# EAGLE library part NC7WZ14 (library 7tiny-logic)
UHS Dual Inverter with Schmitt Trigger
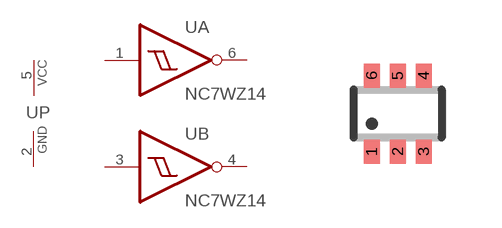
[diagram p6: symbol with the pads of SC70-6; footprint SC70-6]

Designator prefix U; gates A=GATE_INV_S B=GATE_INV_S P=PWRGNDV

## NC7WZ14  [SC70-6]
1  A:IN  in
2  P:GND  pwr
3  B:IN  in
4  B:OUT  out
5  P:VCC  pwr
6  A:OUT  out

## Footprint SC70-6 (pad centres in mm)
SC-70 Package - Fairchild
smd 0.4 x 0.6: 1 -0.65,-0.95; 2 0,-0.95; 3 0.65,-0.95; 4 0.65,0.95; 5 0,0.95; 6 -0.65,0.95